# Altium integrated library Linear Technology Power Management LED Driver ICs.IntLib: 490 symbols (part 9 of 48)
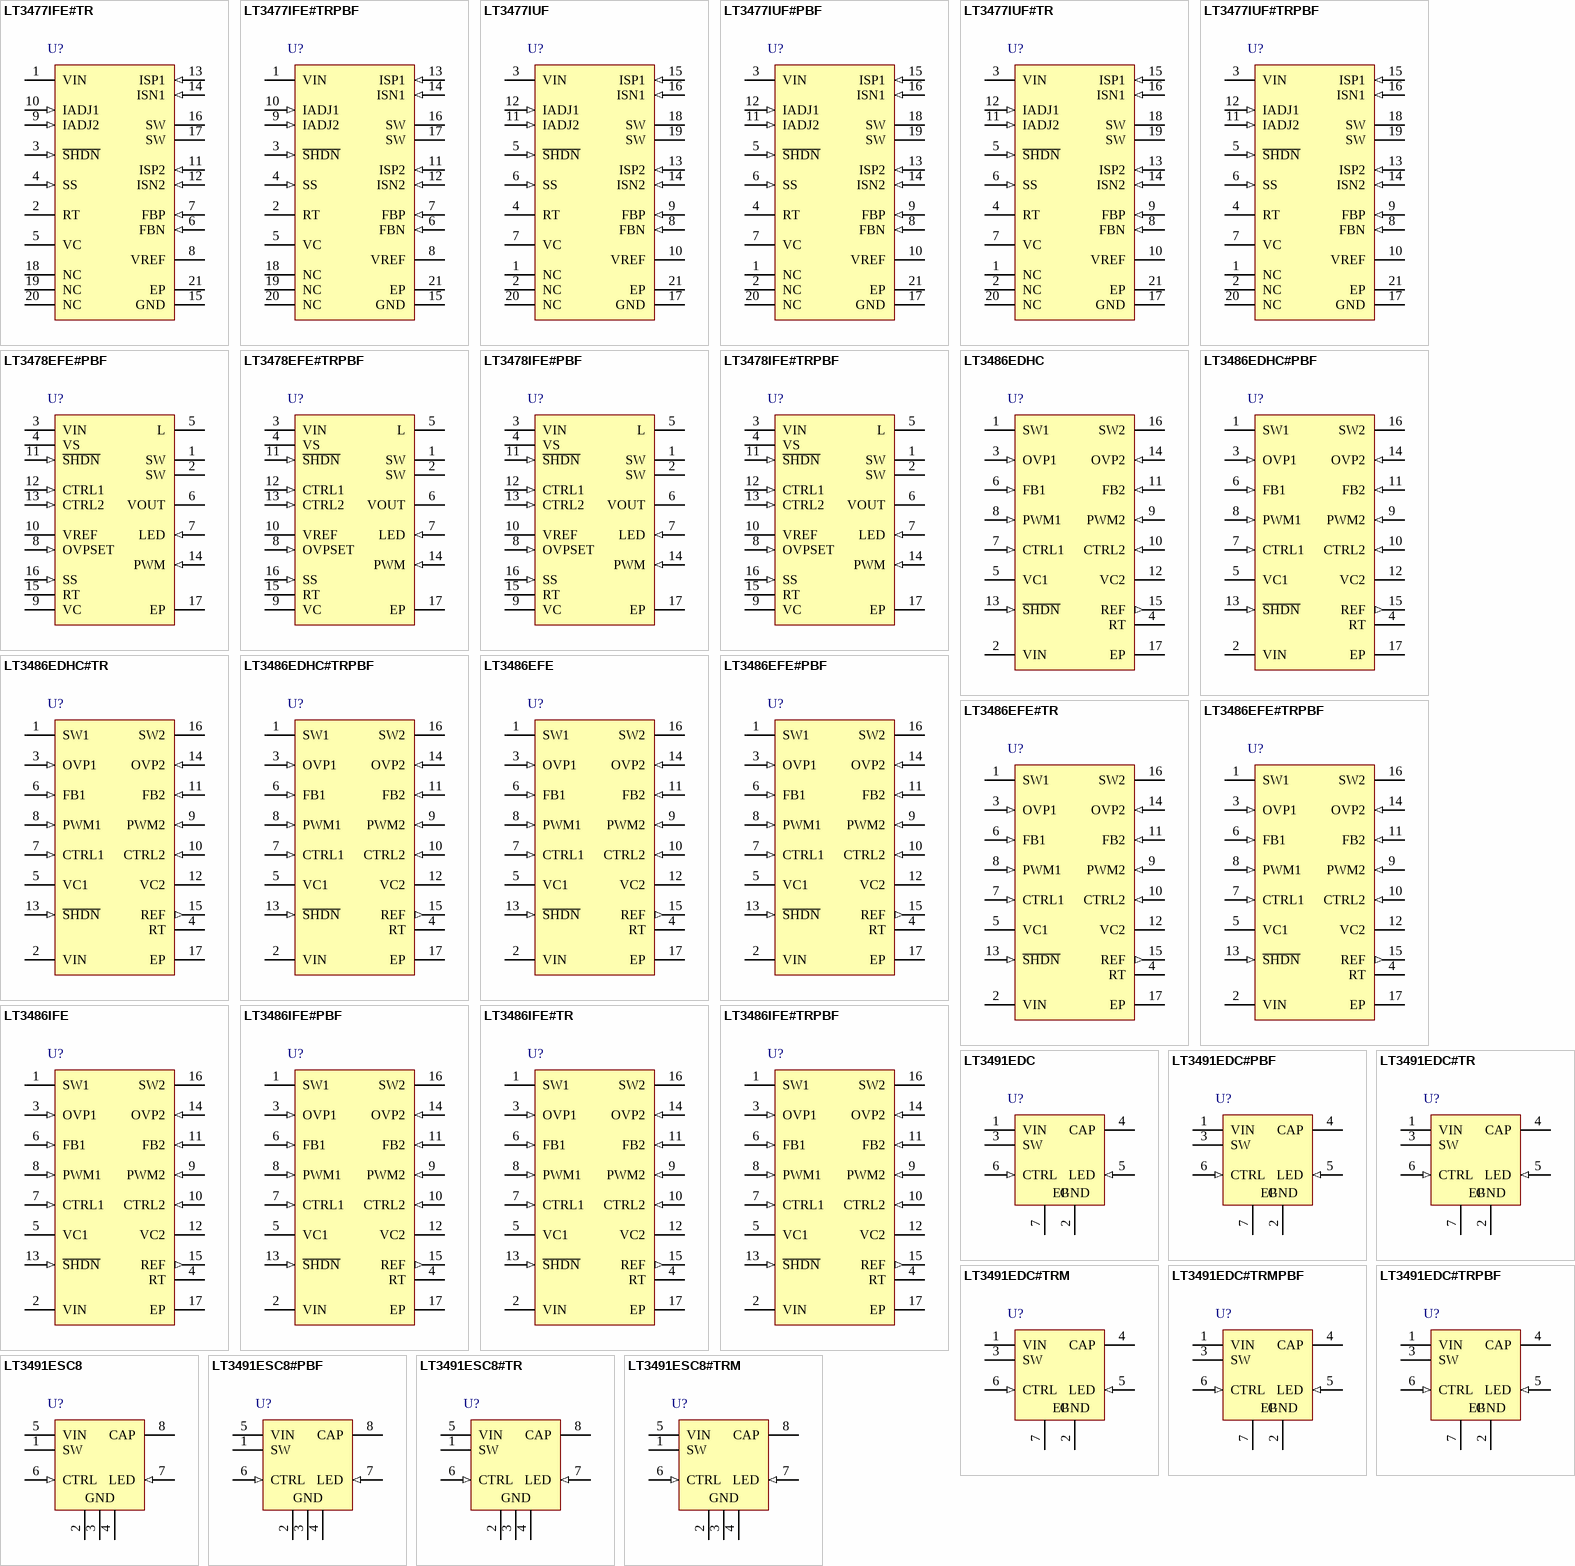
[diagram p28: symbols LT3477IFE#TR to LT3491ESC8#TRM]

## LT3486EDHC#TRPBF
designator U?
Dual 1.3 A White LED Step-Up Converters with Wide Dimming Range, 2.5 to 24 V Vin, 35.4 V Vout MAX, 16-pin SON (DHC-16), -40 to 85 degC, Pb-Free, Tape and Reel; Manufacturer: Linear Technology; PartNumber: LT3486EDHC#TRPBF; Topology: Boost, LED Driver; Vin Min(V): 2.5; DatasheetVersion: Rev. E; PackageVersion: Jun-10; PackageReference: DHC-16; PackageDescription: 16-Pin Plastic DFN, Body 5 x 3 mm, Pitch 0.5 mm; Supplier 1: Digi-Key; Supplier Part Number 1: LT3486EDHC#TRPBF-ND; Packing: Tape and Reel; RoHS: TRUE; Mounting Technology: Surface Mount; Code_JEDEC: MO-229; ComponentLink1Description: Manufacturer URL; ComponentLink1URL: http://www.linear.com/; ComponentLink2Description: Datasheet; ComponentLink2URL: http://cds.linear.com/docs/en/datasheet/3486fe.pdf; ComponentLink3Description: Package Specification; ComponentLink3URL: http://cds.linear.com/docs/en/packaging/DFN_16_05-08-1706.pdf
footprint LT-DHC-16_V (SON, 16-Leads, Body 5x3mm, Pitch 0.5mm, Thermal Pad 4.4X1.65mm)
pins: 1 SW1 (power) "The SW Pins are the Collectors of the Internal Power Transistors. Connect the inductors and Schottky diodes to these pins. Minimize trace area at these pins to minimize EMI.", 2 VIN (power) "Input Supply Pin. Must be locally bypassed with an X5R or X7R type ceramic capacitor.", 3 OVP1 (in) "Output Overvoltage Protection Pins. Connect these pins to the output capacitors. The on-chip voltage detectors monitor the voltages at these pins and limit it to 36V (typ) by turning off the respective switcher and pulling (See Datasheet)", 4 RT "Timing Resistor to Program the Switching Frequency. The switching frequency can be programmed from 200kHz to 2.5MHz.", 5 VC1 "The VC Pins are the Outputs of the Internal Error Amplifier. The voltages at these pins control the peak switch currents. Connect a resistor and capacitor compensation network from these pin to ground.", 6 FB1 (in) "The LT3486 regulates the voltage at each feedback pin to 200mV. Connect the cathode of the lowest LED in the string and the feedback resistor (RFB) to the respective feedback pin.", 7 CTRL1 (in) "The CTRL pins are used to provide dimming and shutdown control for the individual switching converters. Connecting these to ground shuts down the respective converter. As the voltages on these pins is ramped from 0V to 1.8V, (See Datasheet)", 8 PWM1 (in) "The PWM control pins can be used to extend the dimming range for the individual switching converter. The LED current in each string can be controlled down to uA levels by feeding a PWM signal to these pins. When the PWM pin (See Datasheet)", 9 PWM2 (in) "The PWM control pins can be used to extend the dimming range for the individual switching converter. The LED current in each string can be controlled down to uA levels by feeding a PWM signal to these pins. When the PWM pin (See Datasheet)", 10 CTRL2 (in) "The CTRL pins are used to provide dimming and shutdown control for the individual switching converters. Connecting these to ground shuts down the respective converter. As the voltages on these pins is ramped from 0V to 1.8V, (See Datasheet)", 11 FB2 (in) "The LT3486 regulates the voltage at each feedback pin to 200mV. Connect the cathode of the lowest LED in the string and the feedback resistor (RFB) to the respective feedback pin.", 12 VC2 "The VC Pins are the Outputs of the Internal Error Amplifier. The voltages at these pins control the peak switch currents. Connect a resistor and capacitor compensation network from these pin to ground.", 13 ~{SHDN} (in) "Shutdown Pin for the Device. Connect it to 1.6V or higher to enable device; 0.4V or less to disable device.", 14 OVP2 (in) "Output Overvoltage Protection Pins. Connect these pins to the output capacitors. The on-chip voltage detectors monitor the voltages at these pins and limit it to 36V (typ) by turning off the respective switcher and pulling (See Datasheet)", 15 REF (out) "The internal bandgap reference (1.25V) is available at this pin. Bypass with a 0.1uF X5R or X7R ceramic capacitor. Draw no more than 50uA from this pin.", 16 SW2 (power) "The SW Pins are the Collectors of the Internal Power Transistors. Connect the inductors and Schottky diodes to these pins. Minimize trace area at these pins to minimize EMI.", 17 EP (power) "Ground. The exposed pad of the package provides an electrical contact to ground and good thermal connection to the printed circuit board (PCB). Solder the exposed pad to the PCB system ground."

## LT3486EFE
designator U?
Dual 1.3 A White LED Step-Up Converters with Wide Dimming Range, 2.5 to 24 V Vin, 35.4 V Vout MAX, 16-pin SOP (FE-16-EPV-BC), -40 to 85 degC; Manufacturer: Linear Technology; PartNumber: LT3486EFE; Topology: Boost, LED Driver; Vin Min(V): 2.5; DatasheetVersion: Rev. E; PackageVersion: Rev. J, 11/2012; PackageReference: FE-16; PackageDescription: 16-Pin Plastic TSSOP, Body 5 x 4.4 mm, Pitch 0.65 mm; RoHS: FALSE; Mounting Technology: Surface Mount; ComponentLink1Description: Manufacturer URL; ComponentLink1URL: http://www.linear.com/; ComponentLink2Description: Datasheet; ComponentLink2URL: http://cds.linear.com/docs/en/datasheet/3486fe.pdf; ComponentLink3Description: Package Specification; ComponentLink3URL: http://cds.linear.com/docs/en/packaging/05081663__J_FE16(BC).pdf
footprint LT-FE-16-EPV-BC_N (SOP, 16-Leads, Body 5.1x4.5mm, Pitch 0.65mm, Thermal Pad 3.58x2.94mm, IPC Medium Density)
footprint LT-FE-16-EPV-BC_L (SOP, 16-Leads, Body 5.1x4.5mm, Pitch 0.65mm, Thermal Pad 3.58x2.94mm, IPC High Density)
footprint LT-FE-16-EPV-BC_M (SOP, 16-Leads, Body 5.1x4.5mm, Pitch 0.65mm, Thermal Pad 3.58x2.94mm, IPC Low Density)
pins: 1 SW1 (power) "The SW Pins are the Collectors of the Internal Power Transistors. Connect the inductors and Schottky diodes to these pins. Minimize trace area at these pins to minimize EMI.", 2 VIN (power) "Input Supply Pin. Must be locally bypassed with an X5R or X7R type ceramic capacitor.", 3 OVP1 (in) "Output Overvoltage Protection Pins. Connect these pins to the output capacitors. The on-chip voltage detectors monitor the voltages at these pins and limit it to 36V (typ) by turning off the respective switcher and pulling (See Datasheet)", 4 RT "Timing Resistor to Program the Switching Frequency. The switching frequency can be programmed from 200kHz to 2.5MHz.", 5 VC1 "The VC Pins are the Outputs of the Internal Error Amplifier. The voltages at these pins control the peak switch currents. Connect a resistor and capacitor compensation network from these pin to ground.", 6 FB1 (in) "The LT3486 regulates the voltage at each feedback pin to 200mV. Connect the cathode of the lowest LED in the string and the feedback resistor (RFB) to the respective feedback pin.", 7 CTRL1 (in) "The CTRL pins are used to provide dimming and shutdown control for the individual switching converters. Connecting these to ground shuts down the respective converter. As the voltages on these pins is ramped from 0V to 1.8V, (See Datasheet)", 8 PWM1 (in) "The PWM control pins can be used to extend the dimming range for the individual switching converter. The LED current in each string can be controlled down to uA levels by feeding a PWM signal to these pins. When the PWM pin (See Datasheet)", 9 PWM2 (in) "The PWM control pins can be used to extend the dimming range for the individual switching converter. The LED current in each string can be controlled down to uA levels by feeding a PWM signal to these pins. When the PWM pin (See Datasheet)", 10 CTRL2 (in) "The CTRL pins are used to provide dimming and shutdown control for the individual switching converters. Connecting these to ground shuts down the respective converter. As the voltages on these pins is ramped from 0V to 1.8V, (See Datasheet)", 11 FB2 (in) "The LT3486 regulates the voltage at each feedback pin to 200mV. Connect the cathode of the lowest LED in the string and the feedback resistor (RFB) to the respective feedback pin.", 12 VC2 "The VC Pins are the Outputs of the Internal Error Amplifier. The voltages at these pins control the peak switch currents. Connect a resistor and capacitor compensation network from these pin to ground.", 13 ~{SHDN} (in) "Shutdown Pin for the Device. Connect it to 1.6V or higher to enable device; 0.4V or less to disable device.", 14 OVP2 (in) "Output Overvoltage Protection Pins. Connect these pins to the output capacitors. The on-chip voltage detectors monitor the voltages at these pins and limit it to 36V (typ) by turning off the respective switcher and pulling (See Datasheet)", 15 REF (out) "The internal bandgap reference (1.25V) is available at this pin. Bypass with a 0.1uF X5R or X7R ceramic capacitor. Draw no more than 50uA from this pin.", 16 SW2 (power) "The SW Pins are the Collectors of the Internal Power Transistors. Connect the inductors and Schottky diodes to these pins. Minimize trace area at these pins to minimize EMI.", 17 EP (power) "Ground. The exposed pad of the package provides an electrical contact to ground and good thermal connection to the printed circuit board (PCB). Solder the exposed pad to the PCB system ground."

## LT3486EFE#PBF
designator U?
Dual 1.3 A White LED Step-Up Converters with Wide Dimming Range, 2.5 to 24 V Vin, 35.4 V Vout MAX, 16-pin SOP (FE-16-EPV-BC), -40 to 85 degC, Pb-Free; Manufacturer: Linear Technology; PartNumber: LT3486EFE#PBF; Topology: Boost, LED Driver; Vin Min(V): 2.5; DatasheetVersion: Rev. E; PackageVersion: Rev. J, 11/2012; PackageReference: FE-16; PackageDescription: 16-Pin Plastic TSSOP, Body 5 x 4.4 mm, Pitch 0.65 mm; Supplier 1: Digi-Key; Supplier Part Number 1: LT3486EFE#PBF-ND; Supplier 2: Newark; Supplier Part Number 2: 57M8406; RoHS: TRUE; Mounting Technology: Surface Mount; ComponentLink1Description: Manufacturer URL; ComponentLink1URL: http://www.linear.com/; ComponentLink2Description: Datasheet; ComponentLink2URL: http://cds.linear.com/docs/en/datasheet/3486fe.pdf; ComponentLink3Description: Package Specification; ComponentLink3URL: http://cds.linear.com/docs/en/packaging/05081663__J_FE16(BC).pdf
footprint LT-FE-16-EPV-BC_N (SOP, 16-Leads, Body 5.1x4.5mm, Pitch 0.65mm, Thermal Pad 3.58x2.94mm, IPC Medium Density)
footprint LT-FE-16-EPV-BC_L (SOP, 16-Leads, Body 5.1x4.5mm, Pitch 0.65mm, Thermal Pad 3.58x2.94mm, IPC High Density)
footprint LT-FE-16-EPV-BC_M (SOP, 16-Leads, Body 5.1x4.5mm, Pitch 0.65mm, Thermal Pad 3.58x2.94mm, IPC Low Density)
pins: 1 SW1 (power) "The SW Pins are the Collectors of the Internal Power Transistors. Connect the inductors and Schottky diodes to these pins. Minimize trace area at these pins to minimize EMI.", 2 VIN (power) "Input Supply Pin. Must be locally bypassed with an X5R or X7R type ceramic capacitor.", 3 OVP1 (in) "Output Overvoltage Protection Pins. Connect these pins to the output capacitors. The on-chip voltage detectors monitor the voltages at these pins and limit it to 36V (typ) by turning off the respective switcher and pulling (See Datasheet)", 4 RT "Timing Resistor to Program the Switching Frequency. The switching frequency can be programmed from 200kHz to 2.5MHz.", 5 VC1 "The VC Pins are the Outputs of the Internal Error Amplifier. The voltages at these pins control the peak switch currents. Connect a resistor and capacitor compensation network from these pin to ground.", 6 FB1 (in) "The LT3486 regulates the voltage at each feedback pin to 200mV. Connect the cathode of the lowest LED in the string and the feedback resistor (RFB) to the respective feedback pin.", 7 CTRL1 (in) "The CTRL pins are used to provide dimming and shutdown control for the individual switching converters. Connecting these to ground shuts down the respective converter. As the voltages on these pins is ramped from 0V to 1.8V, (See Datasheet)", 8 PWM1 (in) "The PWM control pins can be used to extend the dimming range for the individual switching converter. The LED current in each string can be controlled down to uA levels by feeding a PWM signal to these pins. When the PWM pin (See Datasheet)", 9 PWM2 (in) "The PWM control pins can be used to extend the dimming range for the individual switching converter. The LED current in each string can be controlled down to uA levels by feeding a PWM signal to these pins. When the PWM pin (See Datasheet)", 10 CTRL2 (in) "The CTRL pins are used to provide dimming and shutdown control for the individual switching converters. Connecting these to ground shuts down the respective converter. As the voltages on these pins is ramped from 0V to 1.8V, (See Datasheet)", 11 FB2 (in) "The LT3486 regulates the voltage at each feedback pin to 200mV. Connect the cathode of the lowest LED in the string and the feedback resistor (RFB) to the respective feedback pin.", 12 VC2 "The VC Pins are the Outputs of the Internal Error Amplifier. The voltages at these pins control the peak switch currents. Connect a resistor and capacitor compensation network from these pin to ground.", 13 ~{SHDN} (in) "Shutdown Pin for the Device. Connect it to 1.6V or higher to enable device; 0.4V or less to disable device.", 14 OVP2 (in) "Output Overvoltage Protection Pins. Connect these pins to the output capacitors. The on-chip voltage detectors monitor the voltages at these pins and limit it to 36V (typ) by turning off the respective switcher and pulling (See Datasheet)", 15 REF (out) "The internal bandgap reference (1.25V) is available at this pin. Bypass with a 0.1uF X5R or X7R ceramic capacitor. Draw no more than 50uA from this pin.", 16 SW2 (power) "The SW Pins are the Collectors of the Internal Power Transistors. Connect the inductors and Schottky diodes to these pins. Minimize trace area at these pins to minimize EMI.", 17 EP (power) "Ground. The exposed pad of the package provides an electrical contact to ground and good thermal connection to the printed circuit board (PCB). Solder the exposed pad to the PCB system ground."

## LT3486EFE#TR
designator U?
Dual 1.3 A White LED Step-Up Converters with Wide Dimming Range, 2.5 to 24 V Vin, 35.4 V Vout MAX, 16-pin SOP (FE-16-EPV-BC), -40 to 85 degC, Tape and Reel; Manufacturer: Linear Technology; PartNumber: LT3486EFE#TR; Topology: Boost, LED Driver; Vin Min(V): 2.5; DatasheetVersion: Rev. E; PackageVersion: Rev. J, 11/2012; PackageReference: FE-16; PackageDescription: 16-Pin Plastic TSSOP, Body 5 x 4.4 mm, Pitch 0.65 mm; Packing: Tape and Reel; RoHS: FALSE; Mounting Technology: Surface Mount; ComponentLink1Description: Manufacturer URL; ComponentLink1URL: http://www.linear.com/; ComponentLink2Description: Datasheet; ComponentLink2URL: http://cds.linear.com/docs/en/datasheet/3486fe.pdf; ComponentLink3Description: Package Specification; ComponentLink3URL: http://cds.linear.com/docs/en/packaging/05081663__J_FE16(BC).pdf
footprint LT-FE-16-EPV-BC_N (SOP, 16-Leads, Body 5.1x4.5mm, Pitch 0.65mm, Thermal Pad 3.58x2.94mm, IPC Medium Density)
footprint LT-FE-16-EPV-BC_L (SOP, 16-Leads, Body 5.1x4.5mm, Pitch 0.65mm, Thermal Pad 3.58x2.94mm, IPC High Density)
footprint LT-FE-16-EPV-BC_M (SOP, 16-Leads, Body 5.1x4.5mm, Pitch 0.65mm, Thermal Pad 3.58x2.94mm, IPC Low Density)
pins: 1 SW1 (power) "The SW Pins are the Collectors of the Internal Power Transistors. Connect the inductors and Schottky diodes to these pins. Minimize trace area at these pins to minimize EMI.", 2 VIN (power) "Input Supply Pin. Must be locally bypassed with an X5R or X7R type ceramic capacitor.", 3 OVP1 (in) "Output Overvoltage Protection Pins. Connect these pins to the output capacitors. The on-chip voltage detectors monitor the voltages at these pins and limit it to 36V (typ) by turning off the respective switcher and pulling (See Datasheet)", 4 RT "Timing Resistor to Program the Switching Frequency. The switching frequency can be programmed from 200kHz to 2.5MHz.", 5 VC1 "The VC Pins are the Outputs of the Internal Error Amplifier. The voltages at these pins control the peak switch currents. Connect a resistor and capacitor compensation network from these pin to ground.", 6 FB1 (in) "The LT3486 regulates the voltage at each feedback pin to 200mV. Connect the cathode of the lowest LED in the string and the feedback resistor (RFB) to the respective feedback pin.", 7 CTRL1 (in) "The CTRL pins are used to provide dimming and shutdown control for the individual switching converters. Connecting these to ground shuts down the respective converter. As the voltages on these pins is ramped from 0V to 1.8V, (See Datasheet)", 8 PWM1 (in) "The PWM control pins can be used to extend the dimming range for the individual switching converter. The LED current in each string can be controlled down to uA levels by feeding a PWM signal to these pins. When the PWM pin (See Datasheet)", 9 PWM2 (in) "The PWM control pins can be used to extend the dimming range for the individual switching converter. The LED current in each string can be controlled down to uA levels by feeding a PWM signal to these pins. When the PWM pin (See Datasheet)", 10 CTRL2 (in) "The CTRL pins are used to provide dimming and shutdown control for the individual switching converters. Connecting these to ground shuts down the respective converter. As the voltages on these pins is ramped from 0V to 1.8V, (See Datasheet)", 11 FB2 (in) "The LT3486 regulates the voltage at each feedback pin to 200mV. Connect the cathode of the lowest LED in the string and the feedback resistor (RFB) to the respective feedback pin.", 12 VC2 "The VC Pins are the Outputs of the Internal Error Amplifier. The voltages at these pins control the peak switch currents. Connect a resistor and capacitor compensation network from these pin to ground.", 13 ~{SHDN} (in) "Shutdown Pin for the Device. Connect it to 1.6V or higher to enable device; 0.4V or less to disable device.", 14 OVP2 (in) "Output Overvoltage Protection Pins. Connect these pins to the output capacitors. The on-chip voltage detectors monitor the voltages at these pins and limit it to 36V (typ) by turning off the respective switcher and pulling (See Datasheet)", 15 REF (out) "The internal bandgap reference (1.25V) is available at this pin. Bypass with a 0.1uF X5R or X7R ceramic capacitor. Draw no more than 50uA from this pin.", 16 SW2 (power) "The SW Pins are the Collectors of the Internal Power Transistors. Connect the inductors and Schottky diodes to these pins. Minimize trace area at these pins to minimize EMI.", 17 EP (power) "Ground. The exposed pad of the package provides an electrical contact to ground and good thermal connection to the printed circuit board (PCB). Solder the exposed pad to the PCB system ground."

## LT3486EFE#TRPBF
designator U?
Dual 1.3 A White LED Step-Up Converters with Wide Dimming Range, 2.5 to 24 V Vin, 35.4 V Vout MAX, 16-pin SOP (FE-16-EPV-BC), -40 to 85 degC, Pb-Free, Tape and Reel; Manufacturer: Linear Technology; PartNumber: LT3486EFE#TRPBF; Topology: Boost, LED Driver; Vin Min(V): 2.5; DatasheetVersion: Rev. E; PackageVersion: Rev. J, 11/2012; PackageReference: FE-16; PackageDescription: 16-Pin Plastic TSSOP, Body 5 x 4.4 mm, Pitch 0.65 mm; Supplier 1: Digi-Key; Supplier Part Number 1: LT3486EFE#TRPBF-ND; Packing: Tape and Reel; RoHS: TRUE; Mounting Technology: Surface Mount; ComponentLink1Description: Manufacturer URL; ComponentLink1URL: http://www.linear.com/; ComponentLink2Description: Datasheet; ComponentLink2URL: http://cds.linear.com/docs/en/datasheet/3486fe.pdf; ComponentLink3Description: Package Specification; ComponentLink3URL: http://cds.linear.com/docs/en/packaging/05081663__J_FE16(BC).pdf
footprint LT-FE-16-EPV-BC_N (SOP, 16-Leads, Body 5.1x4.5mm, Pitch 0.65mm, Thermal Pad 3.58x2.94mm, IPC Medium Density)
footprint LT-FE-16-EPV-BC_L (SOP, 16-Leads, Body 5.1x4.5mm, Pitch 0.65mm, Thermal Pad 3.58x2.94mm, IPC High Density)
footprint LT-FE-16-EPV-BC_M (SOP, 16-Leads, Body 5.1x4.5mm, Pitch 0.65mm, Thermal Pad 3.58x2.94mm, IPC Low Density)
pins: 1 SW1 (power) "The SW Pins are the Collectors of the Internal Power Transistors. Connect the inductors and Schottky diodes to these pins. Minimize trace area at these pins to minimize EMI.", 2 VIN (power) "Input Supply Pin. Must be locally bypassed with an X5R or X7R type ceramic capacitor.", 3 OVP1 (in) "Output Overvoltage Protection Pins. Connect these pins to the output capacitors. The on-chip voltage detectors monitor the voltages at these pins and limit it to 36V (typ) by turning off the respective switcher and pulling (See Datasheet)", 4 RT "Timing Resistor to Program the Switching Frequency. The switching frequency can be programmed from 200kHz to 2.5MHz.", 5 VC1 "The VC Pins are the Outputs of the Internal Error Amplifier. The voltages at these pins control the peak switch currents. Connect a resistor and capacitor compensation network from these pin to ground.", 6 FB1 (in) "The LT3486 regulates the voltage at each feedback pin to 200mV. Connect the cathode of the lowest LED in the string and the feedback resistor (RFB) to the respective feedback pin.", 7 CTRL1 (in) "The CTRL pins are used to provide dimming and shutdown control for the individual switching converters. Connecting these to ground shuts down the respective converter. As the voltages on these pins is ramped from 0V to 1.8V, (See Datasheet)", 8 PWM1 (in) "The PWM control pins can be used to extend the dimming range for the individual switching converter. The LED current in each string can be controlled down to uA levels by feeding a PWM signal to these pins. When the PWM pin (See Datasheet)", 9 PWM2 (in) "The PWM control pins can be used to extend the dimming range for the individual switching converter. The LED current in each string can be controlled down to uA levels by feeding a PWM signal to these pins. When the PWM pin (See Datasheet)", 10 CTRL2 (in) "The CTRL pins are used to provide dimming and shutdown control for the individual switching converters. Connecting these to ground shuts down the respective converter. As the voltages on these pins is ramped from 0V to 1.8V, (See Datasheet)", 11 FB2 (in) "The LT3486 regulates the voltage at each feedback pin to 200mV. Connect the cathode of the lowest LED in the string and the feedback resistor (RFB) to the respective feedback pin.", 12 VC2 "The VC Pins are the Outputs of the Internal Error Amplifier. The voltages at these pins control the peak switch currents. Connect a resistor and capacitor compensation network from these pin to ground.", 13 ~{SHDN} (in) "Shutdown Pin for the Device. Connect it to 1.6V or higher to enable device; 0.4V or less to disable device.", 14 OVP2 (in) "Output Overvoltage Protection Pins. Connect these pins to the output capacitors. The on-chip voltage detectors monitor the voltages at these pins and limit it to 36V (typ) by turning off the respective switcher and pulling (See Datasheet)", 15 REF (out) "The internal bandgap reference (1.25V) is available at this pin. Bypass with a 0.1uF X5R or X7R ceramic capacitor. Draw no more than 50uA from this pin.", 16 SW2 (power) "The SW Pins are the Collectors of the Internal Power Transistors. Connect the inductors and Schottky diodes to these pins. Minimize trace area at these pins to minimize EMI.", 17 EP (power) "Ground. The exposed pad of the package provides an electrical contact to ground and good thermal connection to the printed circuit board (PCB). Solder the exposed pad to the PCB system ground."

## LT3486IFE
designator U?
Dual 1.3 A White LED Step-Up Converters with Wide Dimming Range, 2.5 to 24 V Vin, 35.4 V Vout MAX, 16-pin SOP (FE-16-EPV-BC), -40 to 125 degC; Manufacturer: Linear Technology; PartNumber: LT3486IFE; Topology: Boost, LED Driver; Vin Min(V): 2.5; DatasheetVersion: Rev. E; PackageVersion: Rev. J, 11/2012; PackageReference: FE-16; PackageDescription: 16-Pin Plastic TSSOP, Body 5 x 4.4 mm, Pitch 0.65 mm; RoHS: FALSE; Mounting Technology: Surface Mount; ComponentLink1Description: Manufacturer URL; ComponentLink1URL: http://www.linear.com/; ComponentLink2Description: Datasheet; ComponentLink2URL: http://cds.linear.com/docs/en/datasheet/3486fe.pdf; ComponentLink3Description: Package Specification; ComponentLink3URL: http://cds.linear.com/docs/en/packaging/05081663__J_FE16(BC).pdf
footprint LT-FE-16-EPV-BC_N (SOP, 16-Leads, Body 5.1x4.5mm, Pitch 0.65mm, Thermal Pad 3.58x2.94mm, IPC Medium Density)
footprint LT-FE-16-EPV-BC_L (SOP, 16-Leads, Body 5.1x4.5mm, Pitch 0.65mm, Thermal Pad 3.58x2.94mm, IPC High Density)
footprint LT-FE-16-EPV-BC_M (SOP, 16-Leads, Body 5.1x4.5mm, Pitch 0.65mm, Thermal Pad 3.58x2.94mm, IPC Low Density)
pins: 1 SW1 (power) "The SW Pins are the Collectors of the Internal Power Transistors. Connect the inductors and Schottky diodes to these pins. Minimize trace area at these pins to minimize EMI.", 2 VIN (power) "Input Supply Pin. Must be locally bypassed with an X5R or X7R type ceramic capacitor.", 3 OVP1 (in) "Output Overvoltage Protection Pins. Connect these pins to the output capacitors. The on-chip voltage detectors monitor the voltages at these pins and limit it to 36V (typ) by turning off the respective switcher and pulling (See Datasheet)", 4 RT "Timing Resistor to Program the Switching Frequency. The switching frequency can be programmed from 200kHz to 2.5MHz.", 5 VC1 "The VC Pins are the Outputs of the Internal Error Amplifier. The voltages at these pins control the peak switch currents. Connect a resistor and capacitor compensation network from these pin to ground.", 6 FB1 (in) "The LT3486 regulates the voltage at each feedback pin to 200mV. Connect the cathode of the lowest LED in the string and the feedback resistor (RFB) to the respective feedback pin.", 7 CTRL1 (in) "The CTRL pins are used to provide dimming and shutdown control for the individual switching converters. Connecting these to ground shuts down the respective converter. As the voltages on these pins is ramped from 0V to 1.8V, (See Datasheet)", 8 PWM1 (in) "The PWM control pins can be used to extend the dimming range for the individual switching converter. The LED current in each string can be controlled down to uA levels by feeding a PWM signal to these pins. When the PWM pin (See Datasheet)", 9 PWM2 (in) "The PWM control pins can be used to extend the dimming range for the individual switching converter. The LED current in each string can be controlled down to uA levels by feeding a PWM signal to these pins. When the PWM pin (See Datasheet)", 10 CTRL2 (in) "The CTRL pins are used to provide dimming and shutdown control for the individual switching converters. Connecting these to ground shuts down the respective converter. As the voltages on these pins is ramped from 0V to 1.8V, (See Datasheet)", 11 FB2 (in) "The LT3486 regulates the voltage at each feedback pin to 200mV. Connect the cathode of the lowest LED in the string and the feedback resistor (RFB) to the respective feedback pin.", 12 VC2 "The VC Pins are the Outputs of the Internal Error Amplifier. The voltages at these pins control the peak switch currents. Connect a resistor and capacitor compensation network from these pin to ground.", 13 ~{SHDN} (in) "Shutdown Pin for the Device. Connect it to 1.6V or higher to enable device; 0.4V or less to disable device.", 14 OVP2 (in) "Output Overvoltage Protection Pins. Connect these pins to the output capacitors. The on-chip voltage detectors monitor the voltages at these pins and limit it to 36V (typ) by turning off the respective switcher and pulling (See Datasheet)", 15 REF (out) "The internal bandgap reference (1.25V) is available at this pin. Bypass with a 0.1uF X5R or X7R ceramic capacitor. Draw no more than 50uA from this pin.", 16 SW2 (power) "The SW Pins are the Collectors of the Internal Power Transistors. Connect the inductors and Schottky diodes to these pins. Minimize trace area at these pins to minimize EMI.", 17 EP (power) "Ground. The exposed pad of the package provides an electrical contact to ground and good thermal connection to the printed circuit board (PCB). Solder the exposed pad to the PCB system ground."

## LT3486IFE#PBF
designator U?
Dual 1.3 A White LED Step-Up Converters with Wide Dimming Range, 2.5 to 24 V Vin, 35.4 V Vout MAX, 16-pin SOP (FE-16-EPV-BC), -40 to 125 degC, Pb-Free; Manufacturer: Linear Technology; PartNumber: LT3486IFE#PBF; Topology: Boost, LED Driver; Vin Min(V): 2.5; DatasheetVersion: Rev. E; PackageVersion: Rev. J, 11/2012; PackageReference: FE-16; PackageDescription: 16-Pin Plastic TSSOP, Body 5 x 4.4 mm, Pitch 0.65 mm; Supplier 1: Digi-Key; Supplier Part Number 1: LT3486IFE#PBF-ND; Supplier 2: Newark; Supplier Part Number 2: 57M8410; RoHS: TRUE; Mounting Technology: Surface Mount; ComponentLink1Description: Manufacturer URL; ComponentLink1URL: http://www.linear.com/; ComponentLink2Description: Datasheet; ComponentLink2URL: http://cds.linear.com/docs/en/datasheet/3486fe.pdf; ComponentLink3Description: Package Specification; ComponentLink3URL: http://cds.linear.com/docs/en/packaging/05081663__J_FE16(BC).pdf
footprint LT-FE-16-EPV-BC_N (SOP, 16-Leads, Body 5.1x4.5mm, Pitch 0.65mm, Thermal Pad 3.58x2.94mm, IPC Medium Density)
footprint LT-FE-16-EPV-BC_L (SOP, 16-Leads, Body 5.1x4.5mm, Pitch 0.65mm, Thermal Pad 3.58x2.94mm, IPC High Density)
footprint LT-FE-16-EPV-BC_M (SOP, 16-Leads, Body 5.1x4.5mm, Pitch 0.65mm, Thermal Pad 3.58x2.94mm, IPC Low Density)
pins: 1 SW1 (power) "The SW Pins are the Collectors of the Internal Power Transistors. Connect the inductors and Schottky diodes to these pins. Minimize trace area at these pins to minimize EMI.", 2 VIN (power) "Input Supply Pin. Must be locally bypassed with an X5R or X7R type ceramic capacitor.", 3 OVP1 (in) "Output Overvoltage Protection Pins. Connect these pins to the output capacitors. The on-chip voltage detectors monitor the voltages at these pins and limit it to 36V (typ) by turning off the respective switcher and pulling (See Datasheet)", 4 RT "Timing Resistor to Program the Switching Frequency. The switching frequency can be programmed from 200kHz to 2.5MHz.", 5 VC1 "The VC Pins are the Outputs of the Internal Error Amplifier. The voltages at these pins control the peak switch currents. Connect a resistor and capacitor compensation network from these pin to ground.", 6 FB1 (in) "The LT3486 regulates the voltage at each feedback pin to 200mV. Connect the cathode of the lowest LED in the string and the feedback resistor (RFB) to the respective feedback pin.", 7 CTRL1 (in) "The CTRL pins are used to provide dimming and shutdown control for the individual switching converters. Connecting these to ground shuts down the respective converter. As the voltages on these pins is ramped from 0V to 1.8V, (See Datasheet)", 8 PWM1 (in) "The PWM control pins can be used to extend the dimming range for the individual switching converter. The LED current in each string can be controlled down to uA levels by feeding a PWM signal to these pins. When the PWM pin (See Datasheet)", 9 PWM2 (in) "The PWM control pins can be used to extend the dimming range for the individual switching converter. The LED current in each string can be controlled down to uA levels by feeding a PWM signal to these pins. When the PWM pin (See Datasheet)", 10 CTRL2 (in) "The CTRL pins are used to provide dimming and shutdown control for the individual switching converters. Connecting these to ground shuts down the respective converter. As the voltages on these pins is ramped from 0V to 1.8V, (See Datasheet)", 11 FB2 (in) "The LT3486 regulates the voltage at each feedback pin to 200mV. Connect the cathode of the lowest LED in the string and the feedback resistor (RFB) to the respective feedback pin.", 12 VC2 "The VC Pins are the Outputs of the Internal Error Amplifier. The voltages at these pins control the peak switch currents. Connect a resistor and capacitor compensation network from these pin to ground.", 13 ~{SHDN} (in) "Shutdown Pin for the Device. Connect it to 1.6V or higher to enable device; 0.4V or less to disable device.", 14 OVP2 (in) "Output Overvoltage Protection Pins. Connect these pins to the output capacitors. The on-chip voltage detectors monitor the voltages at these pins and limit it to 36V (typ) by turning off the respective switcher and pulling (See Datasheet)", 15 REF (out) "The internal bandgap reference (1.25V) is available at this pin. Bypass with a 0.1uF X5R or X7R ceramic capacitor. Draw no more than 50uA from this pin.", 16 SW2 (power) "The SW Pins are the Collectors of the Internal Power Transistors. Connect the inductors and Schottky diodes to these pins. Minimize trace area at these pins to minimize EMI.", 17 EP (power) "Ground. The exposed pad of the package provides an electrical contact to ground and good thermal connection to the printed circuit board (PCB). Solder the exposed pad to the PCB system ground."

## LT3486IFE#TR
designator U?
Dual 1.3 A White LED Step-Up Converters with Wide Dimming Range, 2.5 to 24 V Vin, 35.4 V Vout MAX, 16-pin SOP (FE-16-EPV-BC), -40 to 125 degC, Tape and Reel; Manufacturer: Linear Technology; PartNumber: LT3486IFE#TR; Topology: Boost, LED Driver; Vin Min(V): 2.5; DatasheetVersion: Rev. E; PackageVersion: Rev. J, 11/2012; PackageReference: FE-16; PackageDescription: 16-Pin Plastic TSSOP, Body 5 x 4.4 mm, Pitch 0.65 mm; Packing: Tape and Reel; RoHS: FALSE; Mounting Technology: Surface Mount; ComponentLink1Description: Manufacturer URL; ComponentLink1URL: http://www.linear.com/; ComponentLink2Description: Datasheet; ComponentLink2URL: http://cds.linear.com/docs/en/datasheet/3486fe.pdf; ComponentLink3Description: Package Specification; ComponentLink3URL: http://cds.linear.com/docs/en/packaging/05081663__J_FE16(BC).pdf
footprint LT-FE-16-EPV-BC_N (SOP, 16-Leads, Body 5.1x4.5mm, Pitch 0.65mm, Thermal Pad 3.58x2.94mm, IPC Medium Density)
footprint LT-FE-16-EPV-BC_L (SOP, 16-Leads, Body 5.1x4.5mm, Pitch 0.65mm, Thermal Pad 3.58x2.94mm, IPC High Density)
footprint LT-FE-16-EPV-BC_M (SOP, 16-Leads, Body 5.1x4.5mm, Pitch 0.65mm, Thermal Pad 3.58x2.94mm, IPC Low Density)
pins: 1 SW1 (power) "The SW Pins are the Collectors of the Internal Power Transistors. Connect the inductors and Schottky diodes to these pins. Minimize trace area at these pins to minimize EMI.", 2 VIN (power) "Input Supply Pin. Must be locally bypassed with an X5R or X7R type ceramic capacitor.", 3 OVP1 (in) "Output Overvoltage Protection Pins. Connect these pins to the output capacitors. The on-chip voltage detectors monitor the voltages at these pins and limit it to 36V (typ) by turning off the respective switcher and pulling (See Datasheet)", 4 RT "Timing Resistor to Program the Switching Frequency. The switching frequency can be programmed from 200kHz to 2.5MHz.", 5 VC1 "The VC Pins are the Outputs of the Internal Error Amplifier. The voltages at these pins control the peak switch currents. Connect a resistor and capacitor compensation network from these pin to ground.", 6 FB1 (in) "The LT3486 regulates the voltage at each feedback pin to 200mV. Connect the cathode of the lowest LED in the string and the feedback resistor (RFB) to the respective feedback pin.", 7 CTRL1 (in) "The CTRL pins are used to provide dimming and shutdown control for the individual switching converters. Connecting these to ground shuts down the respective converter. As the voltages on these pins is ramped from 0V to 1.8V, (See Datasheet)", 8 PWM1 (in) "The PWM control pins can be used to extend the dimming range for the individual switching converter. The LED current in each string can be controlled down to uA levels by feeding a PWM signal to these pins. When the PWM pin (See Datasheet)", 9 PWM2 (in) "The PWM control pins can be used to extend the dimming range for the individual switching converter. The LED current in each string can be controlled down to uA levels by feeding a PWM signal to these pins. When the PWM pin (See Datasheet)", 10 CTRL2 (in) "The CTRL pins are used to provide dimming and shutdown control for the individual switching converters. Connecting these to ground shuts down the respective converter. As the voltages on these pins is ramped from 0V to 1.8V, (See Datasheet)", 11 FB2 (in) "The LT3486 regulates the voltage at each feedback pin to 200mV. Connect the cathode of the lowest LED in the string and the feedback resistor (RFB) to the respective feedback pin.", 12 VC2 "The VC Pins are the Outputs of the Internal Error Amplifier. The voltages at these pins control the peak switch currents. Connect a resistor and capacitor compensation network from these pin to ground.", 13 ~{SHDN} (in) "Shutdown Pin for the Device. Connect it to 1.6V or higher to enable device; 0.4V or less to disable device.", 14 OVP2 (in) "Output Overvoltage Protection Pins. Connect these pins to the output capacitors. The on-chip voltage detectors monitor the voltages at these pins and limit it to 36V (typ) by turning off the respective switcher and pulling (See Datasheet)", 15 REF (out) "The internal bandgap reference (1.25V) is available at this pin. Bypass with a 0.1uF X5R or X7R ceramic capacitor. Draw no more than 50uA from this pin.", 16 SW2 (power) "The SW Pins are the Collectors of the Internal Power Transistors. Connect the inductors and Schottky diodes to these pins. Minimize trace area at these pins to minimize EMI.", 17 EP (power) "Ground. The exposed pad of the package provides an electrical contact to ground and good thermal connection to the printed circuit board (PCB). Solder the exposed pad to the PCB system ground."

## LT3486IFE#TRPBF
designator U?
Dual 1.3 A White LED Step-Up Converters with Wide Dimming Range, 2.5 to 24 V Vin, 35.4 V Vout MAX, 16-pin SOP (FE-16-EPV-BC), -40 to 125 degC, Pb-Free, Tape and Reel; Manufacturer: Linear Technology; PartNumber: LT3486IFE#TRPBF; Topology: Boost, LED Driver; Vin Min(V): 2.5; DatasheetVersion: Rev. E; PackageVersion: Rev. J, 11/2012; PackageReference: FE-16; PackageDescription: 16-Pin Plastic TSSOP, Body 5 x 4.4 mm, Pitch 0.65 mm; Supplier 1: Digi-Key; Supplier Part Number 1: LT3486IFE#TRPBF-ND; Packing: Tape and Reel; RoHS: TRUE; Mounting Technology: Surface Mount; ComponentLink1Description: Manufacturer URL; ComponentLink1URL: http://www.linear.com/; ComponentLink2Description: Datasheet; ComponentLink2URL: http://cds.linear.com/docs/en/datasheet/3486fe.pdf; ComponentLink3Description: Package Specification; ComponentLink3URL: http://cds.linear.com/docs/en/packaging/05081663__J_FE16(BC).pdf
footprint LT-FE-16-EPV-BC_N (SOP, 16-Leads, Body 5.1x4.5mm, Pitch 0.65mm, Thermal Pad 3.58x2.94mm, IPC Medium Density)
footprint LT-FE-16-EPV-BC_L (SOP, 16-Leads, Body 5.1x4.5mm, Pitch 0.65mm, Thermal Pad 3.58x2.94mm, IPC High Density)
footprint LT-FE-16-EPV-BC_M (SOP, 16-Leads, Body 5.1x4.5mm, Pitch 0.65mm, Thermal Pad 3.58x2.94mm, IPC Low Density)
pins: 1 SW1 (power) "The SW Pins are the Collectors of the Internal Power Transistors. Connect the inductors and Schottky diodes to these pins. Minimize trace area at these pins to minimize EMI.", 2 VIN (power) "Input Supply Pin. Must be locally bypassed with an X5R or X7R type ceramic capacitor.", 3 OVP1 (in) "Output Overvoltage Protection Pins. Connect these pins to the output capacitors. The on-chip voltage detectors monitor the voltages at these pins and limit it to 36V (typ) by turning off the respective switcher and pulling (See Datasheet)", 4 RT "Timing Resistor to Program the Switching Frequency. The switching frequency can be programmed from 200kHz to 2.5MHz.", 5 VC1 "The VC Pins are the Outputs of the Internal Error Amplifier. The voltages at these pins control the peak switch currents. Connect a resistor and capacitor compensation network from these pin to ground.", 6 FB1 (in) "The LT3486 regulates the voltage at each feedback pin to 200mV. Connect the cathode of the lowest LED in the string and the feedback resistor (RFB) to the respective feedback pin.", 7 CTRL1 (in) "The CTRL pins are used to provide dimming and shutdown control for the individual switching converters. Connecting these to ground shuts down the respective converter. As the voltages on these pins is ramped from 0V to 1.8V, (See Datasheet)", 8 PWM1 (in) "The PWM control pins can be used to extend the dimming range for the individual switching converter. The LED current in each string can be controlled down to uA levels by feeding a PWM signal to these pins. When the PWM pin (See Datasheet)", 9 PWM2 (in) "The PWM control pins can be used to extend the dimming range for the individual switching converter. The LED current in each string can be controlled down to uA levels by feeding a PWM signal to these pins. When the PWM pin (See Datasheet)", 10 CTRL2 (in) "The CTRL pins are used to provide dimming and shutdown control for the individual switching converters. Connecting these to ground shuts down the respective converter. As the voltages on these pins is ramped from 0V to 1.8V, (See Datasheet)", 11 FB2 (in) "The LT3486 regulates the voltage at each feedback pin to 200mV. Connect the cathode of the lowest LED in the string and the feedback resistor (RFB) to the respective feedback pin.", 12 VC2 "The VC Pins are the Outputs of the Internal Error Amplifier. The voltages at these pins control the peak switch currents. Connect a resistor and capacitor compensation network from these pin to ground.", 13 ~{SHDN} (in) "Shutdown Pin for the Device. Connect it to 1.6V or higher to enable device; 0.4V or less to disable device.", 14 OVP2 (in) "Output Overvoltage Protection Pins. Connect these pins to the output capacitors. The on-chip voltage detectors monitor the voltages at these pins and limit it to 36V (typ) by turning off the respective switcher and pulling (See Datasheet)", 15 REF (out) "The internal bandgap reference (1.25V) is available at this pin. Bypass with a 0.1uF X5R or X7R ceramic capacitor. Draw no more than 50uA from this pin.", 16 SW2 (power) "The SW Pins are the Collectors of the Internal Power Transistors. Connect the inductors and Schottky diodes to these pins. Minimize trace area at these pins to minimize EMI.", 17 EP (power) "Ground. The exposed pad of the package provides an electrical contact to ground and good thermal connection to the printed circuit board (PCB). Solder the exposed pad to the PCB system ground."

## LT3491EDC
designator U?
White LED Driver with Integrated Schottky, 2.5 to 12 V Vin, 24 V Vout MAX, 6-pin SON (DC6-6), -40 to 85 degC; Manufacturer: Linear Technology; PartNumber: LT3491EDC; Topology: Boost, LED Driver; Vin Min(V): 2.5; PackageVersion: Rev. B, 06/2010; PackageReference: DC6-6; PackageDescription: 6-Pin Plastic DFN, Body 2 x 2 mm, Pitch 0.5 mm; RoHS: FALSE; Mounting Technology: Surface Mount; Code_JEDEC: MO-229; ComponentLink1Description: Manufacturer URL; ComponentLink1URL: http://www.linear.com/; ComponentLink2Description: Datasheet; ComponentLink2URL: http://cds.linear.com/docs/en/datasheet/3491fa.pdf; ComponentLink3Description: Package Specification; ComponentLink3URL: http://cds.linear.com/docs/en/packaging/DFN_6_05-08-1703.pdf
footprint LT-DC6-6_V (SON, 6-Leads, Body 2x2mm, Pitch 0.5mm, Thermal Pad 1.42x0.61mm)
pins: 1 VIN (power) "Input Supply Pin. Must be locally bypassed.", 2 GND (power) "Ground Pins. All three pins should be tied directly to local ground plane.", 3 SW "Switch Pin. Minimize trace area at this pin to minimize EMI. Connect the inductor at this pin.", 4 CAP (power) "Output of the Driver. This pin is connected to the cathode of internal Schottky. Connect the output capacitor to this pin and the sense resistor from this pin to the LED pin.", 5 LED (in) "Connection Point for the Anode of the First LED and the Sense Resistor. The LED current can be programmed by: ILED=200mV/RSENSE.", 6 CTRL (in) "Dimming and Shutdown Pin. Connect this pin below 50mV to disable the driver. As the pin voltage is ramped from 0V to 1.5V, the LED current ramps from 0 to ILED ( = 200mV/RSENSE). The CTRL pin must not be left floating.", 7 EP (power) "The Exposed Pad should be soldered to the PCB ground to achieve the rated thermal performance."

## LT3491EDC#PBF
designator U?
White LED Driver with Integrated Schottky, 2.5 to 12 V Vin, 24 V Vout MAX, 6-pin SON (DC6-6), -40 to 85 degC, Pb-Free; Manufacturer: Linear Technology; PartNumber: LT3491EDC#PBF; Topology: Boost, LED Driver; Vin Min(V): 2.5; PackageVersion: Rev. B, 06/2010; PackageReference: DC6-6; PackageDescription: 6-Pin Plastic DFN, Body 2 x 2 mm, Pitch 0.5 mm; Supplier 1: Farnell; Supplier Part Number 1: 1866347; Supplier 2: Newark; Supplier Part Number 2: 52R2636; RoHS: TRUE; Mounting Technology: Surface Mount; Code_JEDEC: MO-229; ComponentLink1Description: Manufacturer URL; ComponentLink1URL: http://www.linear.com/; ComponentLink2Description: Datasheet; ComponentLink2URL: http://cds.linear.com/docs/en/datasheet/3491fa.pdf; ComponentLink3Description: Package Specification; ComponentLink3URL: http://cds.linear.com/docs/en/packaging/DFN_6_05-08-1703.pdf
footprint LT-DC6-6_V (SON, 6-Leads, Body 2x2mm, Pitch 0.5mm, Thermal Pad 1.42x0.61mm)
pins: 1 VIN (power) "Input Supply Pin. Must be locally bypassed.", 2 GND (power) "Ground Pins. All three pins should be tied directly to local ground plane.", 3 SW "Switch Pin. Minimize trace area at this pin to minimize EMI. Connect the inductor at this pin.", 4 CAP (power) "Output of the Driver. This pin is connected to the cathode of internal Schottky. Connect the output capacitor to this pin and the sense resistor from this pin to the LED pin.", 5 LED (in) "Connection Point for the Anode of the First LED and the Sense Resistor. The LED current can be programmed by: ILED=200mV/RSENSE.", 6 CTRL (in) "Dimming and Shutdown Pin. Connect this pin below 50mV to disable the driver. As the pin voltage is ramped from 0V to 1.5V, the LED current ramps from 0 to ILED ( = 200mV/RSENSE). The CTRL pin must not be left floating.", 7 EP (power) "The Exposed Pad should be soldered to the PCB ground to achieve the rated thermal performance."

## LT3491EDC#TR
designator U?
White LED Driver with Integrated Schottky, 2.5 to 12 V Vin, 24 V Vout MAX, 6-pin SON (DC6-6), -40 to 85 degC, Tape and Reel; Manufacturer: Linear Technology; PartNumber: LT3491EDC#TR; Topology: Boost, LED Driver; Vin Min(V): 2.5; PackageVersion: Rev. B, 06/2010; PackageReference: DC6-6; PackageDescription: 6-Pin Plastic DFN, Body 2 x 2 mm, Pitch 0.5 mm; Packing: Tape and Reel; RoHS: FALSE; Mounting Technology: Surface Mount; Code_JEDEC: MO-229; ComponentLink1Description: Manufacturer URL; ComponentLink1URL: http://www.linear.com/; ComponentLink2Description: Datasheet; ComponentLink2URL: http://cds.linear.com/docs/en/datasheet/3491fa.pdf; ComponentLink3Description: Package Specification; ComponentLink3URL: http://cds.linear.com/docs/en/packaging/DFN_6_05-08-1703.pdf
footprint LT-DC6-6_V (SON, 6-Leads, Body 2x2mm, Pitch 0.5mm, Thermal Pad 1.42x0.61mm)
pins: 1 VIN (power) "Input Supply Pin. Must be locally bypassed.", 2 GND (power) "Ground Pins. All three pins should be tied directly to local ground plane.", 3 SW "Switch Pin. Minimize trace area at this pin to minimize EMI. Connect the inductor at this pin.", 4 CAP (power) "Output of the Driver. This pin is connected to the cathode of internal Schottky. Connect the output capacitor to this pin and the sense resistor from this pin to the LED pin.", 5 LED (in) "Connection Point for the Anode of the First LED and the Sense Resistor. The LED current can be programmed by: ILED=200mV/RSENSE.", 6 CTRL (in) "Dimming and Shutdown Pin. Connect this pin below 50mV to disable the driver. As the pin voltage is ramped from 0V to 1.5V, the LED current ramps from 0 to ILED ( = 200mV/RSENSE). The CTRL pin must not be left floating.", 7 EP (power) "The Exposed Pad should be soldered to the PCB ground to achieve the rated thermal performance."

## LT3491EDC#TRM
designator U?
White LED Driver with Integrated Schottky, 2.5 to 12 V Vin, 24 V Vout MAX, 6-pin SON (DC6-6), -40 to 85 degC, Mini Tape and Reel; Manufacturer: Linear Technology; PartNumber: LT3491EDC#TRM; Topology: Boost, LED Driver; Vin Min(V): 2.5; PackageVersion: Rev. B, 06/2010; PackageReference: DC6-6; PackageDescription: 6-Pin Plastic DFN, Body 2 x 2 mm, Pitch 0.5 mm; Packing: Mini Tape and Reel; RoHS: FALSE; Mounting Technology: Surface Mount; Code_JEDEC: MO-229; ComponentLink1Description: Manufacturer URL; ComponentLink1URL: http://www.linear.com/; ComponentLink2Description: Datasheet; ComponentLink2URL: http://cds.linear.com/docs/en/datasheet/3491fa.pdf; ComponentLink3Description: Package Specification; ComponentLink3URL: http://cds.linear.com/docs/en/packaging/DFN_6_05-08-1703.pdf
footprint LT-DC6-6_V (SON, 6-Leads, Body 2x2mm, Pitch 0.5mm, Thermal Pad 1.42x0.61mm)
pins: 1 VIN (power) "Input Supply Pin. Must be locally bypassed.", 2 GND (power) "Ground Pins. All three pins should be tied directly to local ground plane.", 3 SW "Switch Pin. Minimize trace area at this pin to minimize EMI. Connect the inductor at this pin.", 4 CAP (power) "Output of the Driver. This pin is connected to the cathode of internal Schottky. Connect the output capacitor to this pin and the sense resistor from this pin to the LED pin.", 5 LED (in) "Connection Point for the Anode of the First LED and the Sense Resistor. The LED current can be programmed by: ILED=200mV/RSENSE.", 6 CTRL (in) "Dimming and Shutdown Pin. Connect this pin below 50mV to disable the driver. As the pin voltage is ramped from 0V to 1.5V, the LED current ramps from 0 to ILED ( = 200mV/RSENSE). The CTRL pin must not be left floating.", 7 EP (power) "The Exposed Pad should be soldered to the PCB ground to achieve the rated thermal performance."